# Altium footprint library PCB - RF FILTER - JOHANSON 2450BP39C100C.PCBLIB: 1 footprints
Each footprint in its own frame and in the unit in brackets; x right, y up, seen from the top. Pads: shape width x height; smd on the part's side, far side on the other; paste and mask are expansions set on the pad; w line width, h text height; cw(c..) or ccw(c..) is an arc to the next point about the centre after c.
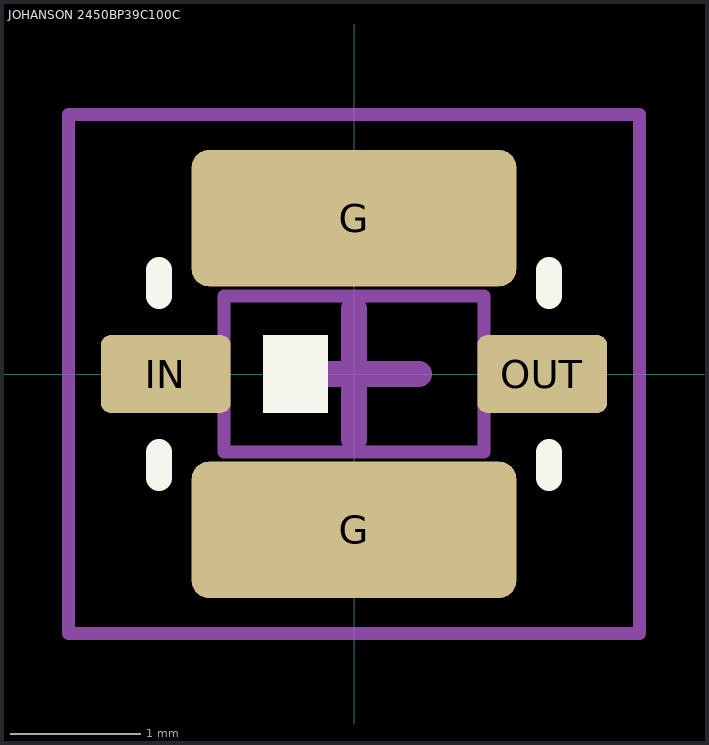
[diagram p0: the footprint, top view; thin cyan lines are the x and y axes]

## JOHANSON 2450BP39C100C [mm] "2.45GHz Bandpass Filter"
height 1
pads (4):
  rrect25% 2.5x1.05 smd: G(0,-1.2) G(0,1.2)
  rrect25% 1x0.6 smd: IN(-1.45,0) OUT(1.45,0)
Top Overlay:
  rectangle: -0.7,-0.3 -0.2,0.3
  lines w0.2: -1.5,-0.8 -1.5,-0.6 ; -1.5,0.6 -1.5,0.8 ; 1.5,-0.8 1.5,-0.6 ; 1.5,0.6 1.5,0.8
Mechanical 1:
  lines w0.1: -1,-0.6 1,-0.6 1,0.6 -1,0.6 -1,-0.6
Mechanical 15:
  lines w0.1: -2.2,-2 -2.2,2 2.2,2 2.2,-2 -2.2,-2
  lines w0.2: -0.5,0 0.5,0 ; 0,-0.5 0,0.5
3D body "Johanson - 2450BP39C0100001CE.step": height 1, standoff 0, extent -1.25,-1 1.25,1